# Altium footprint library 1909763-1.PcbLib: 1 footprints
Each footprint in its own frame and in the unit in brackets; x right, y up, seen from the top. Pads: shape width x height; smd on the part's side, far side on the other; paste and mask are expansions set on the pad; w line width, h text height; cw(c..) or ccw(c..) is an arc to the next point about the centre after c.
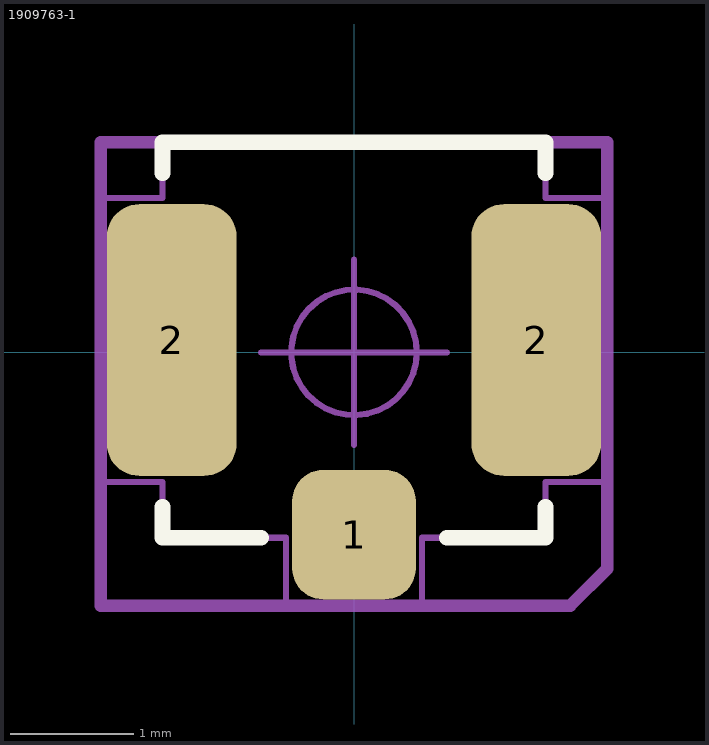
[diagram p0: the footprint, top view; thin cyan lines are the x and y axes]

## 1909763-1 [mm]
pads (3):
  rrect50% 1x1.05 smd mask+0: 1(0,-1.475)
  rrect50% 1.05x2.2 smd mask+0: 2(-1.475,0.1) 2(1.475,0.1)
Top Overlay:
  lines w0.127: -1.55,-1.25 -1.55,-1.5 -0.75,-1.5 ; -1.55,1.45 -1.55,1.7 1.55,1.7 1.55,1.45 ; 0.75,-1.5 1.55,-1.5 1.55,-1.25
Mechanical 3:
  lines w0.1: -2.05,-2.05 -2.05,1.7 2.05,1.7 2.05,-1.75 1.75,-2.05 -0.1,-2.05 -2.05,-2.05
Mechanical 7:
  circle w0.05: c0,0 r0.508
  lines w0.05: -0.75,0 0.75,0 ; -0.7,-1.5 -0.55,-1.5 -0.55,-2.05 0.55,-2.05 0.55,-1.5 1.55,-1.5 1.55,-1.05 2.05,-1.05 2.05,1.25 1.55,1.25 1.55,1.7 -1.55,1.7 -1.55,1.25 -2.05,1.25 -2.05,-1.05 -1.55,-1.05 -1.55,-1.5 -0.6,-1.5 ; 0,-0.75 0,0.75
Mechanical 9:
  text "'.Designator'" at -5.69,-0.398 h1.02
3D body "c-1909763-1-b-3d.stp": height 1.24, standoff 0.01, extent -1.5,-1.45 1.5,1.65
3D body: height 1.25, standoff 0, extent -2.05,-2.05 2.05,1.7